# Altium footprint library SRU1048-8R2Y.PcbLib: 1 footprints
Each footprint in its own frame and in the unit in brackets; x right, y up, seen from the top. Pads: shape width x height; smd on the part's side, far side on the other; paste and mask are expansions set on the pad; w line width, h text height; cw(c..) or ccw(c..) is an arc to the next point about the centre after c.
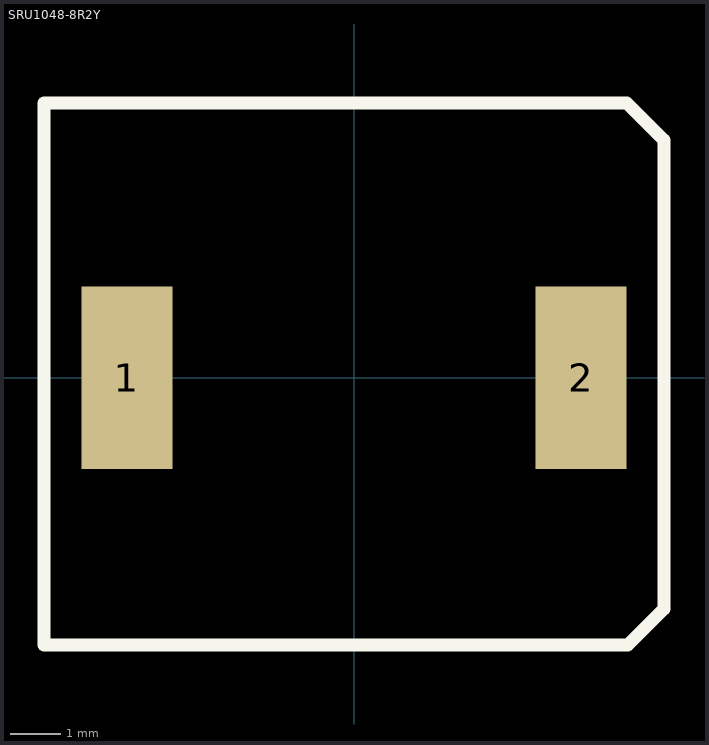
[diagram p0: the footprint, top view; thin cyan lines are the x and y axes]

## SRU1048-8R2Y [mil]
pads (2):
  rect 71x142 smd: 1(-177,0) 2(177,0)
Top Overlay:
  lines w10: -241.5,-208.27 -241.5,0 -241.5,214.17 212.6,214.17 241.5,185.27 241.5,-180.15 213.39,-208.27 -241.5,-208.27